# Altium footprint library WE-OLTI.PcbLib: 30 footprints (part 2 of 2)
Each footprint in its own frame and in the unit in brackets; x right, y up, seen from the top. Pads: shape width x height; smd on the part's side, far side on the other; paste and mask are expansions set on the pad; w line width, h text height; cw(c..) or ccw(c..) is an arc to the next point about the centre after c.
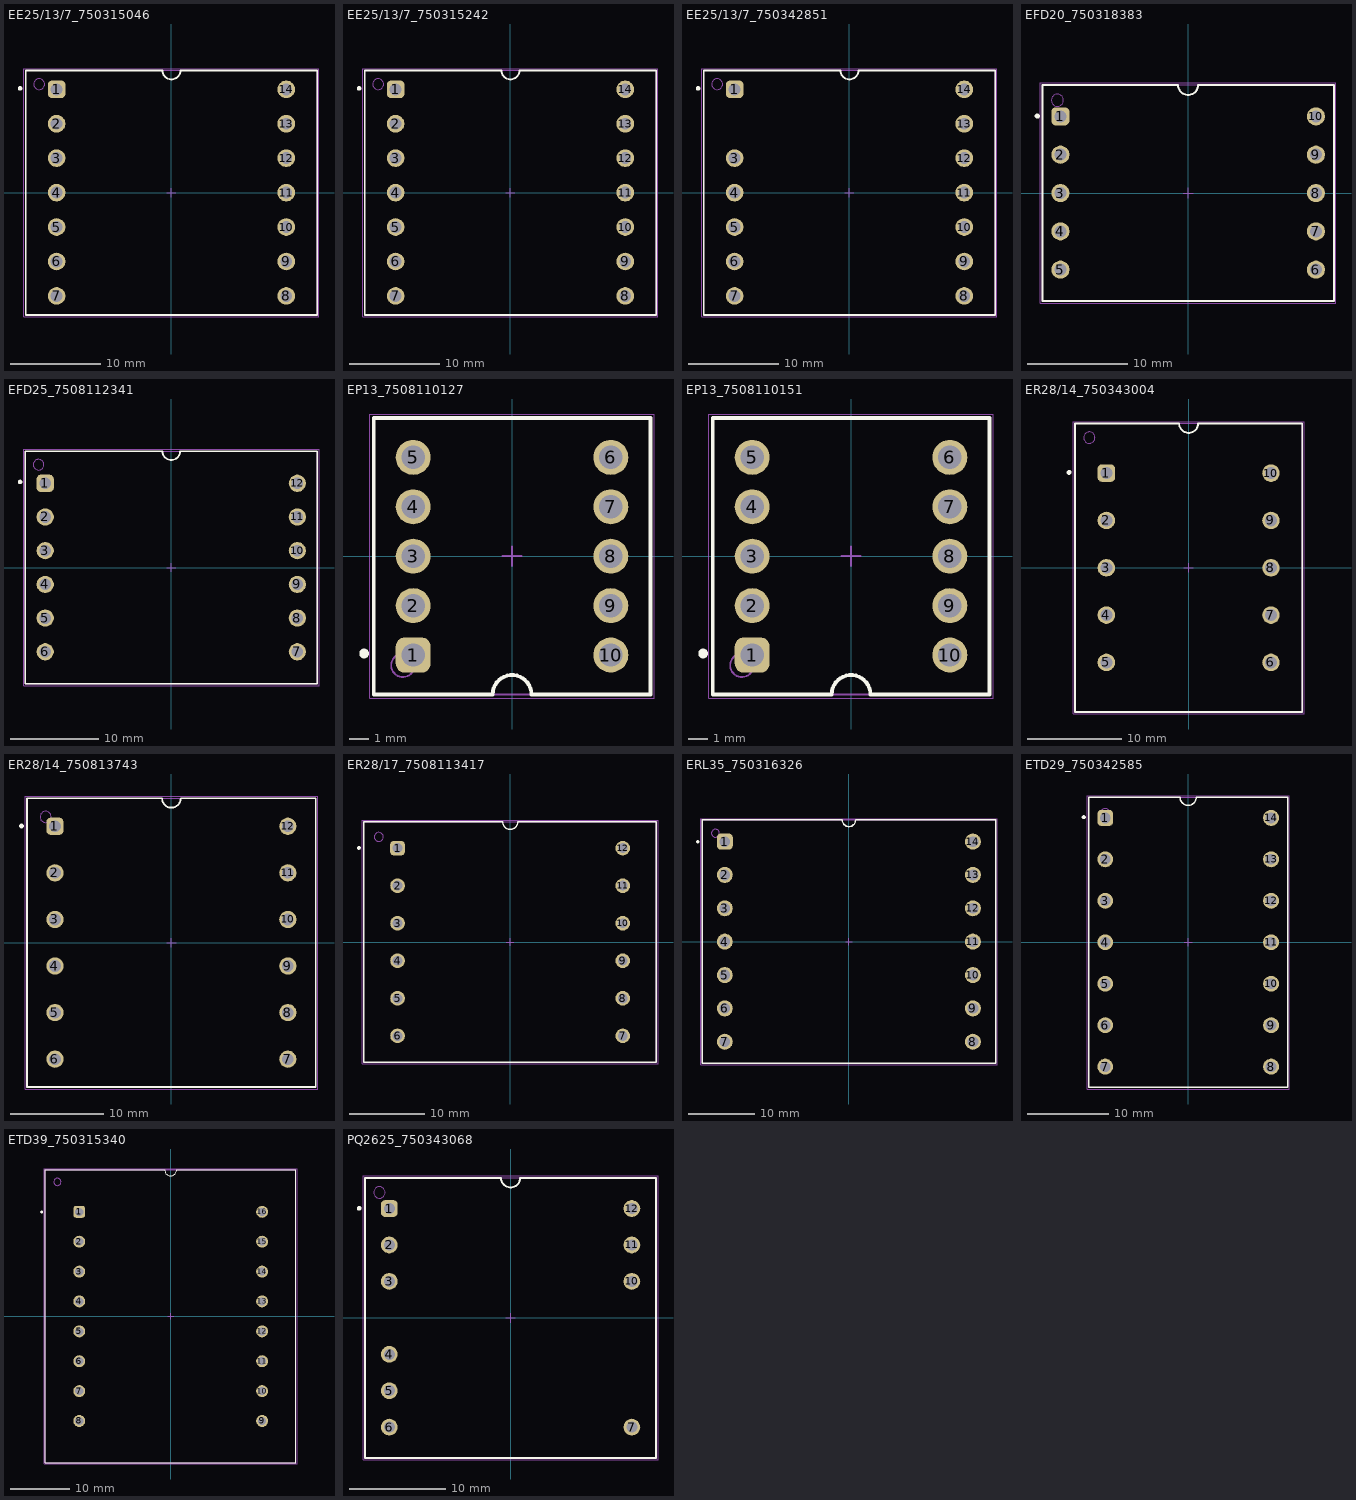
[diagram p1: the footprints below, top view; thin cyan lines are the x and y axes]

## EE25/13/7_750315046 [mm] "Offline Flyback Transformer, EE25/13/7, THT"
height 22.86
pads (14):
  rrect50% 1.95x1.95 hole 1.32: 1(-12.7,11.43)
  round 1.95 hole 1.32: 2(-12.7,7.62) 3(-12.7,3.81) 4(-12.7,0) 5(-12.7,-3.81) 6(-12.7,-7.62) 7(-12.7,-11.43) 8(12.7,-11.43) 9(12.7,-7.62) 10(12.7,-3.81) 11(12.7,0) 12(12.7,3.81) 13(12.7,7.62) 14(12.7,11.43)
Top Overlay:
  circle w0.25: c-16.74,11.525 r0.125
  lines w0.2: -16.125,-13.525 16.125,-13.525 16.125,13.525 1,13.525 cw(c0,13.525) -1,13.525 -16.125,13.525 -16.125,-13.525
Top Assembly:
  circle w0.1: c-14.625,12 r0.6
  lines w0.1: -16.125,-13.525 16.125,-13.525 16.125,13.525 -16.125,13.525 -16.125,-13.525
Top Designator:
  text ".Designator" at -3.647,-0.357 h1
Top 3D Body:
  circle w0.1: c-14.625,12 r0.6
  lines w0.1: -16.125,-13.525 -16.125,13.525 16.125,13.525 16.125,-13.525 -16.125,-13.525
Top Courtyard:
  lines w0.05: -16.325,-13.725 16.325,-13.725 16.325,13.725 -16.325,13.725 -16.325,-13.725
Top Component Center:
  lines w0.1: -0.5,0 0.5,0 ; 0,-0.5 0,0.5
3D body "Download_STP_070-5644_rev1.STEP": height 21.52, standoff -3.46, extent -15.36,-13.05 15.93,13.07

## EE25/13/7_750315242 [mm] "Offline Flyback Transformer, EE25/13/7, THT"
height 22.86
pads (14):
  rrect50% 1.95x1.95 hole 1.32: 1(-12.7,11.43)
  round 1.95 hole 1.32: 2(-12.7,7.62) 3(-12.7,3.81) 4(-12.7,0) 5(-12.7,-3.81) 6(-12.7,-7.62) 7(-12.7,-11.43) 8(12.7,-11.43) 9(12.7,-7.62) 10(12.7,-3.81) 11(12.7,0) 12(12.7,3.81) 13(12.7,7.62) 14(12.7,11.43)
Top Overlay:
  circle w0.25: c-16.74,11.525 r0.125
  lines w0.2: -16.125,-13.525 -16.125,13.525 -1,13.525 ccw(c0,13.525) 1,13.525 16.125,13.525 16.125,-13.525 -16.125,-13.525
Top Assembly:
  circle w0.1: c-14.625,12 r0.6
  lines w0.1: -16.125,-13.525 -16.125,13.525 16.125,13.525 16.125,-13.525 -16.125,-13.525
Top Designator:
  text ".Designator" at -3.647,-0.357 h1
Top 3D Body:
  circle w0.1: c-14.625,12 r0.6
  lines w0.1: -16.125,-13.525 16.125,-13.525 16.125,13.525 -16.125,13.525 -16.125,-13.525
Top Courtyard:
  lines w0.05: -16.325,-13.725 -16.325,13.725 16.325,13.725 16.325,-13.725 -16.325,-13.725
Top Component Center:
  lines w0.1: -0.5,0 0.5,0 ; 0,-0.5 0,0.5
3D body "Download_STP_070-5644_rev1.STEP": height 21.52, standoff -3.46, extent -15.36,-13.05 15.93,13.07

## EE25/13/7_750342851 [mm] "Offline Flyback Transformer, EE25/13/7, THT"
height 22.86
pads (13):
  rrect50% 1.95x1.95 hole 1.32: 1(-12.7,11.43)
  round 1.95 hole 1.32: 3(-12.7,3.81) 4(-12.7,0) 5(-12.7,-3.81) 6(-12.7,-7.62) 7(-12.7,-11.43) 8(12.7,-11.43) 9(12.7,-7.62) 10(12.7,-3.81) 11(12.7,0) 12(12.7,3.81) 13(12.7,7.62) 14(12.7,11.43)
Top Overlay:
  circle w0.25: c-16.74,11.525 r0.125
  lines w0.2: -16.125,-13.525 16.125,-13.525 16.125,13.525 1,13.525 cw(c0,13.525) -1,13.525 -16.125,13.525 -16.125,-13.525
Top Assembly:
  circle w0.1: c-14.625,12 r0.6
  lines w0.1: -16.125,-13.525 16.125,-13.525 16.125,13.525 -16.125,13.525 -16.125,-13.525
Top Designator:
  text ".Designator" at -3.647,-0.357 h1
Top 3D Body:
  circle w0.1: c-14.625,12 r0.6
  lines w0.1: -16.125,-13.525 -16.125,13.525 16.125,13.525 16.125,-13.525 -16.125,-13.525
Top Courtyard:
  lines w0.05: -16.325,-13.725 16.325,-13.725 16.325,13.725 -16.325,13.725 -16.325,-13.725
Top Component Center:
  lines w0.1: -0.5,0 0.5,0 ; 0,-0.5 0,0.5
3D body "Download_STP_070-5989_rev1.STEP": height 21.52, standoff -3.46, extent -15.395,-13.055 15.895,13.065

## EFD20_750318383 [mm] "Offline Flyback Transformer, EFD20, THT"
height 12.45
pads (10):
  rrect50% 1.8x1.8 hole 1.2: 1(-12.7,7.62)
  round 1.8 hole 1.2: 2(-12.7,3.81) 3(-12.7,0) 4(-12.7,-3.81) 5(-12.7,-7.62) 6(12.7,-7.62) 7(12.7,-3.81) 8(12.7,0) 9(12.7,3.81) 10(12.7,7.62)
Top Overlay:
  circle w0.25: c-15,7.65 r0.125
  lines w0.2: -14.5,-10.75 14.5,-10.75 14.5,10.75 1,10.75 cw(c0,10.75) -1,10.75 -14.5,10.75 -14.5,-10.75
Top Assembly:
  circle w0.1: c-13,9.225 r0.6
  lines w0.1: -14.5,-10.75 -14.5,10.75 14.5,10.75 14.5,-10.75 -14.5,-10.75
Top Designator:
  text ".Designator" at -3.647,-0.357 h1
Top 3D Body:
  circle w0.1: c-13,9.225 r0.6
  lines w0.1: -14.5,-10.75 -14.5,10.75 14.5,10.75 14.5,-10.75 -14.5,-10.75
Top Courtyard:
  lines w0.05: -14.7,-10.95 14.7,-10.95 14.7,10.95 -14.7,10.95 -14.7,-10.95
Top Component Center:
  lines w0.1: -0.5,0 0.5,0 ; 0,-0.5 0,0.5
3D body "Download_STP_070-5981_rev1.STEP": height 11.85, standoff -3.19, extent -14.29,-10.4 14.29,10.3

## EFD25_7508112341 [mm] "Offline Flyback Transformer, EFD25, THT"
height 14.76
pads (12):
  rrect50% 1.95x1.95 hole 1.32: 1(-14.25,9.525)
  round 1.95 hole 1.32: 2(-14.25,5.715) 3(-14.25,1.905) 4(-14.25,-1.905) 5(-14.25,-5.715) 6(-14.25,-9.525) 7(14.25,-9.525) 8(14.25,-5.715) 9(14.25,-1.905) 10(14.25,1.905) 11(14.25,5.715) 12(14.25,9.525)
Top Overlay:
  circle w0.25: c-17.09,9.675 r0.125
  lines w0.2: -16.5,-13.15 -16.5,13.15 -1,13.15 ccw(c0,13.15) 1,13.15 16.5,13.15 16.5,-13.15 -16.5,-13.15
Top Assembly:
  circle w0.1: c-15,11.625 r0.6
  lines w0.1: -16.5,-13.15 16.5,-13.15 16.5,13.15 -16.5,13.15 -16.5,-13.15
Top Designator:
  text ".Designator" at -3.647,-0.357 h1
Top 3D Body:
  circle w0.1: c-15,11.625 r0.6
  lines w0.1: -16.5,-13.15 -16.5,13.15 16.5,13.15 16.5,-13.15 -16.5,-13.15
Top Courtyard:
  lines w0.05: -16.7,-13.35 16.7,-13.35 16.7,13.35 -16.7,13.35 -16.7,-13.35
Top Component Center:
  lines w0.1: -0.5,0 0.5,0 ; 0,-0.5 0,0.5
3D body "Download_STP_070-6008_rev1.STEP": height 14, standoff -3.19, extent -16.005,-12.97 16.005,13

## EP13_7508110127 [mm] "Offline Flyback Transformer, EP13, THT"
height 12.7
pads (10):
  rrect50% 1.8x1.8 hole 1.2: 1(-5.08,-5.08)
  round 1.8 hole 1.2: 2(-5.08,-2.54) 3(-5.08,0) 4(-5.08,2.54) 5(-5.08,5.08) 6(5.08,5.08) 7(5.08,2.54) 8(5.08,0) 9(5.08,-2.54) 10(5.08,-5.08)
Top Overlay:
  circle w0.25: c-7.6,-5 r0.125
  lines w0.2: -7.11,-7.11 -7.11,7.11 7.11,7.11 7.11,-7.11 1,-7.11 ccw(c0,-7.11) -1,-7.11 -7.11,-7.11
Top Assembly:
  circle w0.1: c-5.61,-5.61 r0.6
  lines w0.1: -7.11,-7.11 -7.11,7.11 7.11,7.11 7.11,-7.11 -7.11,-7.11
Top Designator:
  text ".Designator" at -3.647,-0.357 h1
Top 3D Body:
  circle w0.1: c-5.61,-5.61 r0.6
  lines w0.1: -7.11,-7.11 7.11,-7.11 7.11,7.11 -7.11,7.11 -7.11,-7.11
Top Courtyard:
  lines w0.05: -7.31,-7.31 -7.31,7.31 7.31,7.31 7.31,-7.31 -7.31,-7.31
Top Component Center:
  lines w0.1: -0.5,0 0.5,0 ; 0,-0.5 0,0.5
3D body "Download_STP_070-4821_rev1.STEP": height 12.52, standoff -2.87, extent -6.895,-6.915 6.925,6.885

## EP13_7508110151 [mm] "Offline Flyback Transformer, EP13, THT"
height 12.7
pads (10):
  rrect50% 1.8x1.8 hole 1.2: 1(-5.08,-5.08)
  round 1.8 hole 1.2: 2(-5.08,-2.54) 3(-5.08,0) 4(-5.08,2.54) 5(-5.08,5.08) 6(5.08,5.08) 7(5.08,2.54) 8(5.08,0) 9(5.08,-2.54) 10(5.08,-5.08)
Top Overlay:
  circle w0.25: c-7.6,-5 r0.125
  lines w0.2: -7.11,-7.11 -1,-7.11 cw(c0,-7.11) 1,-7.11 7.11,-7.11 7.11,7.11 -7.11,7.11 -7.11,-7.11
Top Assembly:
  circle w0.1: c-5.61,-5.61 r0.6
  lines w0.1: -7.11,-7.11 7.11,-7.11 7.11,7.11 -7.11,7.11 -7.11,-7.11
Top Designator:
  text ".Designator" at -3.647,-0.357 h1
Top 3D Body:
  circle w0.1: c-5.61,-5.61 r0.6
  lines w0.1: -7.11,-7.11 -7.11,7.11 7.11,7.11 7.11,-7.11 -7.11,-7.11
Top Courtyard:
  lines w0.05: -7.31,-7.31 7.31,-7.31 7.31,7.31 -7.31,7.31 -7.31,-7.31
Top Component Center:
  lines w0.1: -0.5,0 0.5,0 ; 0,-0.5 0,0.5
3D body "Download_STP_070-4821_rev1.STEP": height 12.52, standoff -2.87, extent -6.895,-6.915 6.925,6.885

## ER28/14_750343004 [mm] "Offline Flyback Transformer, ER28/14, THT"
height 33
pads (10):
  rrect50% 1.85x1.85 hole 1.25: 1(-8.7,10)
  round 1.85 hole 1.25: 2(-8.7,5) 3(-8.7,0) 4(-8.7,-5) 5(-8.7,-10) 6(8.7,-10) 7(8.7,-5) 8(8.7,0) 9(8.7,5) 10(8.7,10)
Top Overlay:
  circle w0.25: c-12.64,10.075 r0.125
  lines w0.2: -12,15.25 -1.005,15.25 ccw(c-0.005,15.25) 0.995,15.25 ; -12,15.255 -12,-15.255 12,-15.255 12,15.255 ; 1.005,15.25 12,15.25
Top Assembly:
  circle w0.1: c-10.5,13.75 r0.6
  lines w0.1: -12,-15.25 -12,15.245 -11.995,15.25 -11.995,15.255 12,15.255 12,-15.25 -12,-15.25
Top Designator:
  text ".Designator" at -3.647,-0.357 h1
Top 3D Body:
  circle w0.1: c-10.495,13.755 r0.6
  lines w0.1: -12,-15.255 12,-15.255 12,15.255 -11.995,15.255 -11.995,15.25 -12,15.245 -12,-15.255
Top Courtyard:
  lines w0.05: -12.2,-15.455 12.2,-15.455 12.2,15.45 -12.2,15.45 -12.2,-15.455
Top Component Center:
  lines w0.1: -0.5,0 0.5,0 ; 0,-0.5 0,0.5
3D body "Download_STP_070-5576_rev1.STEP": height 30.31, standoff -3.94, extent -11.5,-14.71 11.52,14.71

## ER28/14_750813743 [mm] "Offline Flyback Transformer, ER28/14, THT"
height 25
pads (12):
  rrect50% 1.85x1.85 hole 1.25: 1(-12.5,12.5)
  round 1.85 hole 1.25: 2(-12.5,7.5) 3(-12.5,2.5) 4(-12.5,-2.5) 5(-12.5,-7.5) 6(-12.5,-12.5) 7(12.5,-12.5) 8(12.5,-7.5) 9(12.5,-2.5) 10(12.5,2.5) 11(12.5,7.5) 12(12.5,12.5)
Top Overlay:
  circle w0.25: c-16.09,12.525 r0.125
  lines w0.2: -15.5,-15.5 -15.5,15.5 -1,15.5 ccw(c0,15.5) 1,15.5 15.5,15.5 15.5,-15.5 -15.5,-15.5
Top Assembly:
  circle w0.1: c-13.5,13.5 r0.6
  lines w0.1: -15.5,-15.5 15.5,-15.5 15.5,15.5 -15.5,15.5 -15.5,-15.5
Top Designator:
  text ".Designator" at -3.647,-0.357 h1
Top 3D Body:
  circle w0.1: c-13.5,13.5 r0.6
  lines w0.1: -15.5,-15.5 15.5,-15.5 15.5,15.5 -15.5,15.5 -15.5,-15.5
Top Courtyard:
  lines w0.05: -15.7,-15.7 -15.7,15.7 15.7,15.7 15.7,-15.7 -15.7,-15.7
Top Component Center:
  lines w0.1: -0.5,0 0.5,0 ; 0,-0.5 0,0.5
3D body "Download_STP_070-4869_rev1.STEP": height 23.95, standoff -3.93, extent -14.46,-14.72 14.46,14.7

## ER28/17_7508113417 [mm] "Offline Flyback Transformer, ER28/17, THT"
height 26
pads (12):
  rrect50% 1.95x1.95 hole 1.32: 1(-15,12.5)
  round 1.95 hole 1.32: 2(-15,7.5) 3(-15,2.5) 4(-15,-2.5) 5(-15,-7.5) 6(-15,-12.5) 7(15,-12.5) 8(15,-7.5) 9(15,-2.5) 10(15,2.5) 11(15,7.5) 12(15,12.5)
Top Overlay:
  circle w0.25: c-20.14,12.525 r0.125
  lines w0.2: -19.5,-16 -19.5,16 -1,16 ccw(c0,16) 1,16 19.5,16 19.5,-16 -19.5,-16
Top Assembly:
  circle w0.1: c-17.5,14 r0.6
  lines w0.1: -19.5,-16 19.5,-16 19.5,16 -19.5,16 -19.5,-16
Top Designator:
  text ".Designator" at -3.647,-0.357 h1
Top 3D Body:
  circle w0.1: c-17.5,14 r0.6
  lines w0.1: -19.5,-16 -19.5,16 19.5,16 19.5,-16 -19.5,-16
Top Courtyard:
  lines w0.05: -19.7,-16.2 -19.7,16.2 19.7,16.2 19.7,-16.2 -19.7,-16.2
Top Component Center:
  lines w0.1: -0.5,0 0.5,0 ; 0,-0.5 0,0.5
3D body "Download_STP_070-5652_rev1.STEP": height 26.05, standoff -3.45, extent -19.5,-16 19.5,16

## ERL35_750316326 [mm] "Offline Flyback Transformer, ERL35, THT"
height 28.5
pads (14):
  rrect50% 2.4x2.4 hole 1.6: 1(-18.6,15)
  round 2.4 hole 1.6: 2(-18.6,10) 3(-18.6,5) 4(-18.6,0) 5(-18.6,-5) 6(-18.6,-10) 7(-18.6,-15) 8(18.6,-15) 9(18.6,-10) 10(18.6,-5) 11(18.6,0) 12(18.6,5) 13(18.6,10) 14(18.6,15)
Top Overlay:
  circle w0.25: c-22.64,14.975 r0.125
  lines w0.2: -22,-18.25 22,-18.25 22,18.25 1,18.25 cw(c0,18.25) -1,18.25 -22,18.25 -22,-18.25
Top Assembly:
  circle w0.1: c-20,16.25 r0.6
  lines w0.1: -22,-18.25 -22,18.25 22,18.25 22,-18.25 -22,-18.25
Top Designator:
  text ".Designator" at -3.647,-0.357 h1
Top 3D Body:
  circle w0.1: c-20,16.25 r0.6
  lines w0.1: -22,-18.25 22,-18.25 22,18.25 -22,18.25 -22,-18.25
Top Courtyard:
  lines w0.05: -22.2,-18.45 22.2,-18.45 22.2,18.45 -22.2,18.45 -22.2,-18.45
Top Component Center:
  lines w0.1: -0.5,0 0.5,0 ; 0,-0.5 0,0.5
3D body "Download_STP_070-5783_rev1.STEP": height 28.51, standoff -3.46, extent -21.75,-18.02 21.75,18

## ETD29_750342585 [mm] "Offline Flyback Transformer, ETD29, THT"
height 44.2
pads (14):
  rrect50% 1.95x1.95 hole 1.32: 1(-10.16,15.24)
  round 1.95 hole 1.32: 2(-10.16,10.16) 3(-10.16,5.08) 4(-10.16,0) 5(-10.16,-5.08) 6(-10.16,-10.16) 7(-10.16,-15.24) 8(10.16,-15.24) 9(10.16,-10.16) 10(10.16,-5.08) 11(10.16,0) 12(10.16,5.08) 13(10.16,10.16) 14(10.16,15.24)
Top Overlay:
  circle w0.25: c-12.79,15.325 r0.125
  lines w0.2: -12.19,-17.78 -12.19,17.78 -1,17.78 ccw(c0,17.78) 1,17.78 12.19,17.78 12.19,-17.78 -12.19,-17.78
Top Assembly:
  circle w0.1: c-10.19,15.78 r0.6
  lines w0.1: -12.19,-17.78 12.19,-17.78 12.19,17.78 -12.19,17.78 -12.19,-17.78
Top Designator:
  text ".Designator" at -3.647,-0.357 h1
Top 3D Body:
  circle w0.1: c-10.19,15.78 r0.6
  lines w0.1: -12.19,-17.78 -12.19,17.78 12.19,17.78 12.19,-17.78 -12.19,-17.78
Top Courtyard:
  lines w0.05: -12.39,-17.98 -12.39,17.98 12.39,17.98 12.39,-17.98 -12.39,-17.98
Top Component Center:
  lines w0.1: -0.5,0 0.5,0 ; 0,-0.5 0,0.5
3D body "Download_STP_070-4772_rev1.STEP": height 39.95, standoff -3.2, extent -11.904,-17.502 11.896,17.498

## ETD39_750315340 [mm] "Offline Flyback Transformer, ETD39, THT"
height 31.75
pads (16):
  rrect50% 2x2 hole 1.35: 1(-15.3,17.5)
  round 2 hole 1.35: 2(-15.3,12.5) 3(-15.3,7.5) 4(-15.3,2.5) 5(-15.3,-2.5) 6(-15.3,-7.5) 7(-15.3,-12.5) 8(-15.3,-17.5) 9(15.3,-17.5) 10(15.3,-12.5) 11(15.3,-7.5) 12(15.3,-2.5) 13(15.3,2.5) 14(15.3,7.5) 15(15.3,12.5) 16(15.3,17.5)
Top Overlay:
  circle w0.25: c-21.59,17.475 r0.125
  lines w0.2: -20.95,-24.5 20.95,-24.5 20.95,24.5 1,24.5 cw(c0,24.5) -1,24.5 -20.95,24.5 -20.95,-24.5
Top Assembly:
  circle w0.1: c-18.95,22.5 r0.6
  lines w0.1: -20.95,-24.5 -20.95,24.5 20.95,24.5 20.95,-24.5 -20.95,-24.5
Top Designator:
  text ".Designator" at -3.647,-0.357 h1
Top 3D Body:
  circle w0.1: c-18.95,22.5 r0.6
  lines w0.1: -20.95,-24.5 20.95,-24.5 20.95,24.5 -20.95,24.5 -20.95,-24.5
Top Courtyard:
  lines w0.05: -21.15,-24.7 21.15,-24.7 21.15,24.7 -21.15,24.7 -21.15,-24.7
Top Component Center:
  lines w0.1: -0.5,0 0.5,0 ; 0,-0.5 0,0.5
3D body "Download_STP_070-5724_rev1.STEP": height 31.55, standoff -4.14, extent -20.5,-21.4 20.5,21.3

## PQ2625_750343068 [mm] "Offline Flyback Transformer, PQ2625, THT"
height 29.3
pads (10):
  rrect50% 1.75x1.75 hole 1.15: 1(-12.65,11.4)
  round 1.75 hole 1.15: 2(-12.65,7.6) 3(-12.65,3.8) 4(-12.65,-3.8) 5(-12.65,-7.6) 6(-12.65,-11.4) 7(12.65,-11.4) 10(12.65,3.8) 11(12.65,7.6) 12(12.65,11.4)
Top Overlay:
  circle w0.25: c-15.79,11.425 r0.125
  lines w0.2: -15.175,-14.6 15.175,-14.6 15.175,14.6 1,14.6 cw(c0,14.6) -1,14.6 -15.175,14.6 -15.175,-14.6
Top Assembly:
  circle w0.1: c-13.675,13.075 r0.6
  lines w0.1: -15.175,-14.6 15.175,-14.6 15.175,14.6 -15.175,14.6 -15.175,-14.6
Top Designator:
  text ".Designator" at -3.647,-0.357 h1
Top 3D Body:
  circle w0.1: c-13.675,13.075 r0.6
  lines w0.1: -15.175,-14.6 -15.175,14.6 15.175,14.6 15.175,-14.6 -15.175,-14.6
Top Courtyard:
  lines w0.05: -15.375,-14.8 15.375,-14.8 15.375,14.8 -15.375,14.8 -15.375,-14.8
Top Component Center:
  lines w0.1: -0.5,0 0.5,0 ; 0,-0.5 0,0.5
3D body "Download_STP_070-5649_MP8-9_rev1.STEP": height 28.35, standoff -3.94, extent -14.7,-14.02 14.68,14.02